# EAGLE library part 8CHMPLEX (library loadcell)
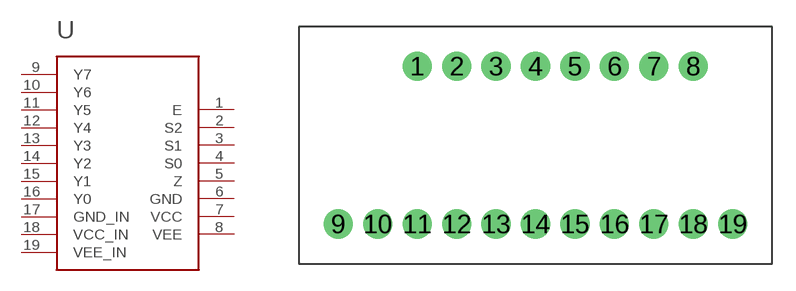
[diagram p1: symbol with the pads of 74HC4051; footprint 74HC4051]

Designator prefix -

## 8CHMPLEX  [74HC4051]
1  E  out
2  S2  out
3  S1  out
4  S0  out
5  Z  out
6  GND  pwr
7  VCC  pwr
8  VEE  pwr
9  Y7  in
10  Y6  in
11  Y5  in
12  Y4  in
13  Y3  in
14  Y2  in
15  Y1  in
16  Y0  in
17  GND_IN  pwr
18  VCC_IN  pwr
19  VEE_IN  pwr

## Footprint 74HC4051 (pad centres in mm)
drill 1.016 pad 1.88: 1 7.62,12.7; 2 10.16,12.7; 3 12.7,12.7; 4 15.24,12.7; 5 17.78,12.7; 6 20.32,12.7; 7 22.86,12.7; 8 25.4,12.7; 9 2.54,2.54; 10 5.08,2.54; 11 7.62,2.54; 12 10.16,2.54; 13 12.7,2.54; 14 15.24,2.54; 15 17.78,2.54; 16 20.32,2.54; 17 22.86,2.54; 18 25.4,2.54; 19 27.94,2.54